# Altium schematic symbol library CEL.SchLib: 2 symbols
Pins are listed as number, name and electrical type; pins without a type are passive.

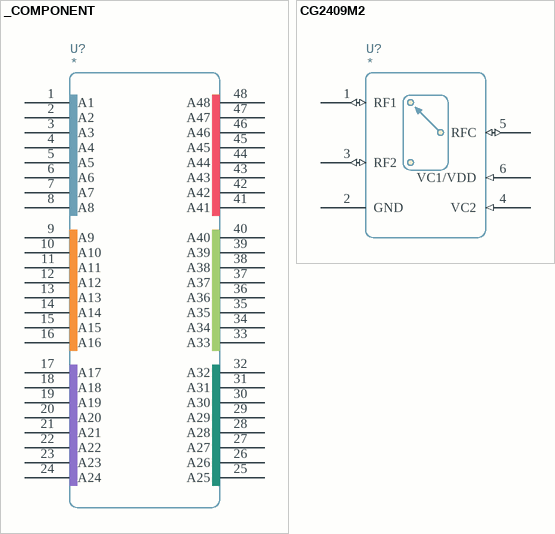
[diagram p0: symbols _COMPONENT to CG2409M2]

## _COMPONENT
designator U?
pins: 1 A1, 2 A2, 3 A3, 4 A4, 5 A5, 6 A6, 7 A7, 8 A8, 9 A9, 10 A10, 11 A11, 12 A12, 13 A13, 14 A14, 15 A15, 16 A16, 17 A17, 18 A18, 19 A19, 20 A20, 21 A21, 22 A22, 23 A23, 24 A24, 25 A25, 26 A26, 27 A27, 28 A28, 29 A29, 30 A30, 31 A31, 32 A32, 33 A33, 34 A34, 35 A35, 36 A36, 37 A37, 38 A38, 39 A39, 40 A40, 41 A41, 42 A42, 43 A43, 44 A44, 45 A45, 46 A46, 47 A47, 48 A48

## CG2409M2
designator U?
pins: 1 RF1 (io), 2 GND, 3 RF2 (io), 4 VC2 (in), 5 RFC (io), 6 VC1/VDD (in)